# Altium schematic symbol library Crystal.SchLib: 11 symbols
Pins are listed as number, name and electrical type; pins without a type are passive.

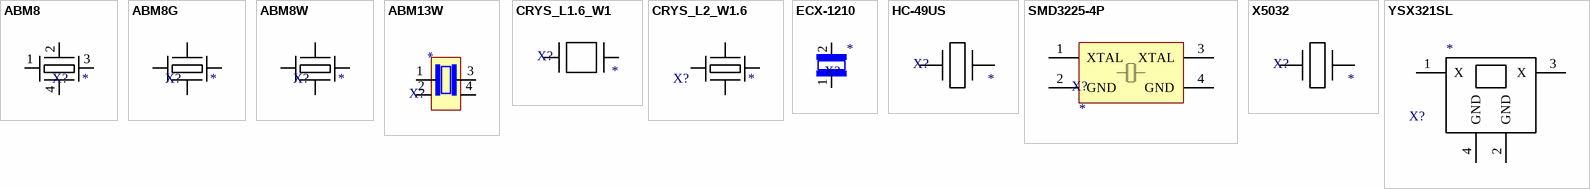
[diagram p0: symbols ABM8 to YSX321SL]

## ABM8
designator X?
CRYS_L3.2_W2.5; Manufacturer 1: Abracon LLC; Manufacturer Part Number 1: *; Value: *
footprint ABM8
pins: 1, 2, 3, 4

## ABM8G
designator X?, comment ERP_111-1  (value not drawn)
CRYS_L3.2_W2.5; Manufacturer 1: Abracon LLC; Manufacturer Part Number 1: *; Value: *
footprint ABM8G
pins: 1, 2, 3, 4

## ABM8W
designator X?, comment ERP_111-1  (value not drawn)
CRYS_L3.2_W2.5; Manufacturer 1: Abracon LLC; Manufacturer Part Number 1: *; Value: *
footprint ABM8W
pins: 1, 2, 3, 4

## ABM13W
designator X?
ABM13W Package; Package: SMD1210-2P; Supplier 1: *; Manufacturer Part Number 1: *; Manufacturer 1: *; Supplier Part Number 1: *; Frequency: *
footprint ABM13W
pins: 1, 2, 3, 4

## CRYS_L1.6_W1
designator X?, comment ERP_111-1  (value not drawn)
CRYSTAL 1P6XW1P0; Manufacturer 1: ECS Inc.; Package: 1P6_1P0; ERP: *; Manufacturer Part Number 1: *; Value: *
footprint CRYS_L1.6_W1
pins: 1, 2

## CRYS_L2_W1.6
designator X?, comment ERP_111-1  (value not drawn)
CRYS_L2_W1.6; Package: L2W1.6-4; ERP: *; Suuplier Part Number 1: *; Supplier 1: *; Manufacturer Part Number 1: *; Manufacturer 1: *; Value: *
footprint CRYS_L2_W1.6
pins: 1, 2, 3, 4

## ECX-1210
designator X?
ECX 1210 Package; Package: SMD1210-2P; Supplier 1: *; Manufacturer Part Number 1: *; Manufacturer 1: *; Supplier Part Number 1: *; Frequency: *
footprint ECX-1210
pins: 1, 2

## HC-49US
designator X?
CRYSTAL HC-49US 2 Pin; Package: HC-49US; ERP: *; Manufacturer Part Number 1: *; Manufacturer 1: *; Value: *
footprint HC-49US
pins: 1, 2

## SMD3225-4P
designator X?
SMD3225-4P; Package: SMD3225-4P; Supplier 1: *; Manufacturer Part Number 1: *; Manufacturer 1: *; Supplier Part Number 1: *; Frequency: *
footprint SMD3225-4P (3.2mm x 2.5mm 4P)
pins: 1 XTAL, 2 GND, 3 XTAL, 4 GND

## X5032
designator X?
CRYSTAL X5032 2 Pin; Package: HC-49US; ERP: *; Manufacturer Part Number 1: *; Manufacturer 1: *; Value: *
footprint X5032
pins: 1, 2

## YSX321SL
designator X?
12pF 25MHz Crystal Oscillator ±10ppm ±20ppm SMD3225-4P Crystals ROHS; Manufacturer 1: YXC; Manufacturer Part Number 1: *; Supplier 1: JLCPCB; Supplier Part Number 1: *; Value: *
footprint YSX321SL
pins: 1 X, 2 GND, 3 X, 4 GND